# EAGLE library part TPS54332 (library _mtvl.power)
TPS54332 3.5-A, 28-V, 1-MHz, step-down dc-dc converter with Eco-Mode™ https://www.ti.com/product/TPS54332
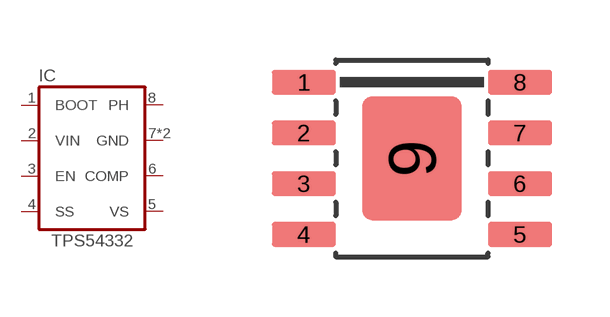
[diagram p18: symbol with the pads of SOIC8N; footprint SOIC8N]

Designator prefix IC

## TPS54332DDAR  [SOIC8N]
1  BOOT  pas
2  VIN  in
3  EN  pas
4  SS  pas
5  VS  in
6  COMP  pas
7  GND  pas
8  PH  out
9  GND  pas

## Footprint SOIC8N (pad centres in mm)
Small Outline IC with Power Pad
smd 1.6 x 0.61: 1 -2.705,1.905; 2 -2.705,0.635; 3 -2.705,-0.635; 4 -2.705,-1.905; 5 2.705,-1.905; 6 2.705,-0.635; 7 2.705,0.635; 8 2.705,1.905
smd 2.49 x 3.1: 9 0,0